# Altium integrated library MCU6050breakout.IntLib: 1 symbol
Pins are listed as number, name and electrical type; pins without a type are passive.

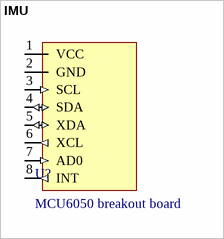
[diagram p0: symbol IMU]

## IMU
designator U?, comment MCU6050 breakout board
footprint PCBComponent_1
pins: 1 VCC (power), 2 GND (power), 3 SCL (in), 4 SDA (io), 5 XDA (io), 6 XCL (out), 7 AD0 (in), 8 INT (out)